# EAGLE library part BM71BLE (library lea_components)
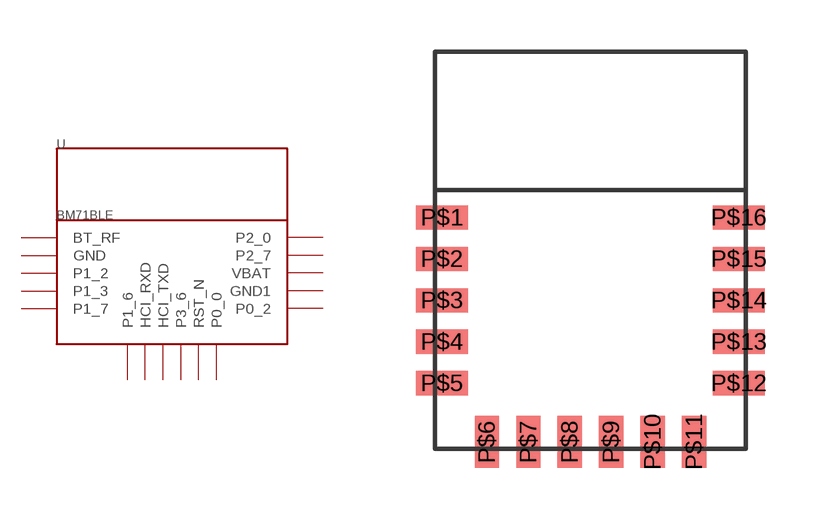
[diagram p2: symbol with the pads of BM71BLES1FC2; footprint BM71BLES1FC2]

Designator prefix U

## BM71BLES1FC2  [BM71BLES1FC2]
P$1  BT_RF
P$2  GND
P$3  P1_2
P$4  P1_3
P$5  P1_7
P$6  P1_6
P$7  HCI_RXD
P$8  HCI_TXD
P$9  P3_6
P$10  RST_N
P$11  P0_0
P$12  P0_2
P$13  GND1
P$14  VBAT
P$15  P2_7
P$16  P2_0

## Footprint BM71BLES1FC2 (pad centres in mm)
smd 1.5 x 0.7: P$1 0.2,6.7; P$2 0.2,5.5; P$3 0.2,4.3; P$4 0.2,3.1; P$5 0.2,1.9; P$12 8.8,1.9; P$13 8.8,3.1; P$14 8.8,4.3; P$15 8.8,5.5; P$16 8.8,6.7
smd 0.7 x 1.5: P$6 1.5,0.2; P$7 2.7,0.2; P$8 3.9,0.2; P$9 5.1,0.2; P$10 6.3,0.2; P$11 7.5,0.2